# Altium integrated library HIP4082 双驱 V2.0 集成封装库.IntLib: 25 symbols
Pins are listed as number, name and electrical type; pins without a type are passive.

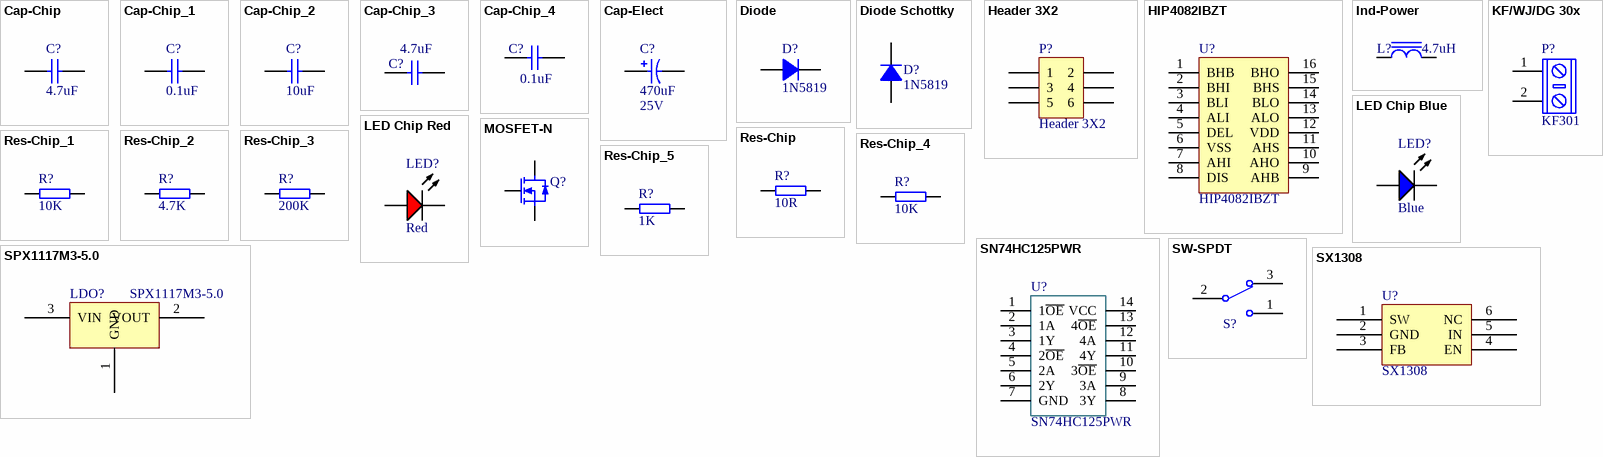
[diagram p0: symbols Cap-Chip to SX1308]

## Cap-Chip
designator C?, comment value 4.7uF  (hidden comment: 4.7uF ±10% 25V)
贴片电容; Published: 8-Jun-2000; Revision: July-2002: Re-released for DXP Platform.; Publisher: Altium Limited; Price(RMB): 0.000; Voltage: 25V; Tolerance: ±10%
footprint CAPC2012[0805]S (Chip Capacitor,Silkscreen Border, 2-Leads, Body 2.00x1.25mm, IPC Medium Density)
footprint CAPC1005[0402] (Chip Capacitor, 2-Leads, Body 1.00x0.50mm, IPC Medium Density)
footprint CAPC1005[0402]S (Chip Capacitor,Silkscreen border, 2-Leads, Body 1.00x0.50mm, IPC Medium Density)
footprint CAPC1310[0504]S (Chip Capacitor, 2-Leads, Body 1.17x1.02mm, IPC Medium Density)
footprint CAPC1608[0603]-L (Chip Capacitor, 2-Leads, Body 1.60x0.80mm, IPC Medium Density)
footprint CAPC1608[0603]-M (Chip Capacitor, 2-Leads, Body 1.60x0.80mm, IPC Maximum Density)
footprint CAPC1608[0603]-N (Chip Capacitor, 2-Leads, Body 1.60x0.80mm, IPC Medium Density)
footprint CAPC1608[0603]S-L (Chip Capacitor,Silkscreen Border,2-Leads, Body 1.60x0.80mm, IPC Minimum Density)
footprint CAPC1608[0603]S-M (Chip Capacitor,Silkscreen Border,2-Leads, Body 1.60x0.80mm, IPC Maximum Density)
footprint CAPC1608[0603]S-N (Chip Capacitor,Silkscreen Border,2-Leads, Body 1.60x0.80mm, IPC Medium Density)
footprint CAPC2012[0805] (Chip Capacitor, 2-Leads, Body 2.00x1.25mm, IPC Medium Density)
footprint CAPC3216[1206] (Chip Capacitor, 2-Leads, Body 3.20x1.60mm, IPC Medium Density)
footprint CAPC3216[1206]S (Chip Capacitor, Silkscreen Border,2-Leads, Body 3.20x1.60mm, IPC Medium Density)
footprint CAPC3225[1210] (Chip Capacitor, 2-Leads, Body 3.20x2.50mm, IPC Medium Density)
footprint CAPC3225[1210]S (Chip Capacitor,Silkscreen Border, 2-Leads, Body 3.20x2.50mm, IPC Medium Density)
footprint CAPC4532[1812] (Chip Capacitor, 2-Leads, Body 4.50x3.20mm, IPC Medium Density)
footprint CAPC4532[1812]S (Chip Capacitor, Silkscreen Border,2-Leads, Body 4.50x3.20mm, IPC Medium Density)
footprint CAPC4564[1825] (Chip Capacitor, 2-Leads, Body 4.50x6.40mm, IPC Medium Density)
footprint CAPC4564[1825]S (Chip Capacitor,Silkscreen Border, 2-Leads, Body 4.50x6.40mm, IPC Medium Density)
pins: 1, 2

## Cap-Chip_1
designator C?, comment value 0.1uF  (hidden comment: 0.1uF ±10% 50V)
贴片电容; Published: 8-Jun-2000; Revision: July-2002: Re-released for DXP Platform.; Publisher: Altium Limited; Price(RMB): 0.000; Voltage: 50V; Tolerance: ±10%
footprint CAPC1608[0603]S-N (Chip Capacitor,Silkscreen Border,2-Leads, Body 1.60x0.80mm, IPC Medium Density)
footprint CAPC1005[0402] (Chip Capacitor, 2-Leads, Body 1.00x0.50mm, IPC Medium Density)
footprint CAPC1005[0402]S (Chip Capacitor,Silkscreen border, 2-Leads, Body 1.00x0.50mm, IPC Medium Density)
footprint CAPC1310[0504]S (Chip Capacitor, 2-Leads, Body 1.17x1.02mm, IPC Medium Density)
footprint CAPC1608[0603]-L (Chip Capacitor, 2-Leads, Body 1.60x0.80mm, IPC Medium Density)
footprint CAPC1608[0603]-M (Chip Capacitor, 2-Leads, Body 1.60x0.80mm, IPC Maximum Density)
footprint CAPC1608[0603]-N (Chip Capacitor, 2-Leads, Body 1.60x0.80mm, IPC Medium Density)
footprint CAPC1608[0603]S-L (Chip Capacitor,Silkscreen Border,2-Leads, Body 1.60x0.80mm, IPC Minimum Density)
footprint CAPC1608[0603]S-M (Chip Capacitor,Silkscreen Border,2-Leads, Body 1.60x0.80mm, IPC Maximum Density)
footprint CAPC2012[0805] (Chip Capacitor, 2-Leads, Body 2.00x1.25mm, IPC Medium Density)
footprint CAPC2012[0805]S (Chip Capacitor,Silkscreen Border, 2-Leads, Body 2.00x1.25mm, IPC Medium Density)
footprint CAPC3216[1206] (Chip Capacitor, 2-Leads, Body 3.20x1.60mm, IPC Medium Density)
footprint CAPC3216[1206]S (Chip Capacitor, Silkscreen Border,2-Leads, Body 3.20x1.60mm, IPC Medium Density)
footprint CAPC3225[1210] (Chip Capacitor, 2-Leads, Body 3.20x2.50mm, IPC Medium Density)
footprint CAPC3225[1210]S (Chip Capacitor,Silkscreen Border, 2-Leads, Body 3.20x2.50mm, IPC Medium Density)
footprint CAPC4532[1812] (Chip Capacitor, 2-Leads, Body 4.50x3.20mm, IPC Medium Density)
footprint CAPC4532[1812]S (Chip Capacitor, Silkscreen Border,2-Leads, Body 4.50x3.20mm, IPC Medium Density)
footprint CAPC4564[1825] (Chip Capacitor, 2-Leads, Body 4.50x6.40mm, IPC Medium Density)
footprint CAPC4564[1825]S (Chip Capacitor,Silkscreen Border, 2-Leads, Body 4.50x6.40mm, IPC Medium Density)
pins: 1, 2

## Cap-Chip_2
designator C?, comment value 10uF  (hidden comment: 10uF ±10% 25V)
贴片电容; Published: 8-Jun-2000; Revision: July-2002: Re-released for DXP Platform.; Publisher: Altium Limited; Price(RMB): 0.000; Voltage: 25V; Tolerance: ±10%
footprint CAPC1608[0603]S-N (Chip Capacitor,Silkscreen Border,2-Leads, Body 1.60x0.80mm, IPC Medium Density)
footprint CAPC1005[0402] (Chip Capacitor, 2-Leads, Body 1.00x0.50mm, IPC Medium Density)
footprint CAPC1005[0402]S (Chip Capacitor,Silkscreen border, 2-Leads, Body 1.00x0.50mm, IPC Medium Density)
footprint CAPC1310[0504]S (Chip Capacitor, 2-Leads, Body 1.17x1.02mm, IPC Medium Density)
footprint CAPC1608[0603]-L (Chip Capacitor, 2-Leads, Body 1.60x0.80mm, IPC Medium Density)
footprint CAPC1608[0603]-M (Chip Capacitor, 2-Leads, Body 1.60x0.80mm, IPC Maximum Density)
footprint CAPC1608[0603]-N (Chip Capacitor, 2-Leads, Body 1.60x0.80mm, IPC Medium Density)
footprint CAPC1608[0603]S-L (Chip Capacitor,Silkscreen Border,2-Leads, Body 1.60x0.80mm, IPC Minimum Density)
footprint CAPC1608[0603]S-M (Chip Capacitor,Silkscreen Border,2-Leads, Body 1.60x0.80mm, IPC Maximum Density)
footprint CAPC2012[0805] (Chip Capacitor, 2-Leads, Body 2.00x1.25mm, IPC Medium Density)
footprint CAPC2012[0805]S (Chip Capacitor,Silkscreen Border, 2-Leads, Body 2.00x1.25mm, IPC Medium Density)
footprint CAPC3216[1206] (Chip Capacitor, 2-Leads, Body 3.20x1.60mm, IPC Medium Density)
footprint CAPC3216[1206]S (Chip Capacitor, Silkscreen Border,2-Leads, Body 3.20x1.60mm, IPC Medium Density)
footprint CAPC3225[1210] (Chip Capacitor, 2-Leads, Body 3.20x2.50mm, IPC Medium Density)
footprint CAPC3225[1210]S (Chip Capacitor,Silkscreen Border, 2-Leads, Body 3.20x2.50mm, IPC Medium Density)
footprint CAPC4532[1812] (Chip Capacitor, 2-Leads, Body 4.50x3.20mm, IPC Medium Density)
footprint CAPC4532[1812]S (Chip Capacitor, Silkscreen Border,2-Leads, Body 4.50x3.20mm, IPC Medium Density)
footprint CAPC4564[1825] (Chip Capacitor, 2-Leads, Body 4.50x6.40mm, IPC Medium Density)
footprint CAPC4564[1825]S (Chip Capacitor,Silkscreen Border, 2-Leads, Body 4.50x6.40mm, IPC Medium Density)
pins: 1, 2

## Cap-Chip_3
designator C?, comment value 4.7uF  (hidden comment: 4.7uF ±10% 50V)
贴片电容; Published: 8-Jun-2000; Revision: July-2002: Re-released for DXP Platform.; Publisher: Altium Limited; Price(RMB): 0.000; Voltage: 50V; Tolerance: ±10%
footprint CAPC1310[0504]S (Chip Capacitor, 2-Leads, Body 1.17x1.02mm, IPC Medium Density)
footprint CAPC2012[0805]S (Chip Capacitor,Silkscreen Border, 2-Leads, Body 2.00x1.25mm, IPC Medium Density)
footprint CAPC3216[1206]S (Chip Capacitor, Silkscreen Border,2-Leads, Body 3.20x1.60mm, IPC Medium Density)
footprint CAPC3225[1210]S (Chip Capacitor,Silkscreen Border, 2-Leads, Body 3.20x2.50mm, IPC Medium Density)
footprint CAPC4532[1812]S (Chip Capacitor, Silkscreen Border,2-Leads, Body 4.50x3.20mm, IPC Medium Density)
footprint CAPC4564[1825]S (Chip Capacitor,Silkscreen Border, 2-Leads, Body 4.50x6.40mm, IPC Medium Density)
footprint CAPC2012[0805] (Chip Capacitor, 2-Leads, Body 2.00x1.25mm, IPC Medium Density)
footprint CAPC3216[1206] (Chip Capacitor, 2-Leads, Body 3.20x1.60mm, IPC Medium Density)
footprint CAPC3225[1210] (Chip Capacitor, 2-Leads, Body 3.20x2.50mm, IPC Medium Density)
footprint CAPC4532[1812] (Chip Capacitor, 2-Leads, Body 4.50x3.20mm, IPC Medium Density)
footprint CAPC4564[1825] (Chip Capacitor, 2-Leads, Body 4.50x6.40mm, IPC Medium Density)
footprint CAPC1608[0603]-N (Chip Capacitor, 2-Leads, Body 1.60x0.80mm, IPC Medium Density)
footprint CAPC1608[0603]-L (Chip Capacitor, 2-Leads, Body 1.60x0.80mm, IPC Medium Density)
footprint CAPC1608[0603]-M (Chip Capacitor, 2-Leads, Body 1.60x0.80mm, IPC Maximum Density)
footprint CAPC1608[0603]S-L (Chip Capacitor,Silkscreen Border,2-Leads, Body 1.60x0.80mm, IPC Minimum Density)
footprint CAPC1608[0603]S-M (Chip Capacitor,Silkscreen Border,2-Leads, Body 1.60x0.80mm, IPC Maximum Density)
footprint CAPC1608[0603]S-N (Chip Capacitor,Silkscreen Border,2-Leads, Body 1.60x0.80mm, IPC Medium Density)
footprint CAPC1005[0402]-L (Chip Capacitor,Silkscreen border, 2-Leads, Body 1.00x0.50mm, IPC Medium Density)
footprint CAPC1005[0402]-M (Chip Capacitor,Silkscreen border, 2-Leads, Body 1.00x0.50mm, IPC Medium Density)
footprint CAPC1005[0402]-N (Chip Capacitor,Silkscreen border, 2-Leads, Body 1.00x0.50mm, IPC Medium Density)
footprint CAPC1005[0402]S-L (Chip Capacitor,Silkscreen border, 2-Leads, Body 1.00x0.50mm, IPC Medium Density)
footprint CAPC1005[0402]S-M (Chip Capacitor,Silkscreen border, 2-Leads, Body 1.00x0.50mm, IPC Medium Density)
footprint CAPC1005[0402]S-N (Chip Capacitor,Silkscreen border, 2-Leads, Body 1.00x0.50mm, IPC Medium Density)
pins: 1, 2

## Cap-Chip_4
designator C?, comment value 0.1uF  (hidden comment: 0.1uF ±10% 50V)
贴片电容; Published: 8-Jun-2000; Revision: July-2002: Re-released for DXP Platform.; Publisher: Altium Limited; Price(RMB): 0.000; Voltage: 50V; Tolerance: ±10%
footprint CAPC1310[0504]S (Chip Capacitor, 2-Leads, Body 1.17x1.02mm, IPC Medium Density)
footprint CAPC2012[0805]S (Chip Capacitor,Silkscreen Border, 2-Leads, Body 2.00x1.25mm, IPC Medium Density)
footprint CAPC3216[1206]S (Chip Capacitor, Silkscreen Border,2-Leads, Body 3.20x1.60mm, IPC Medium Density)
footprint CAPC3225[1210]S (Chip Capacitor,Silkscreen Border, 2-Leads, Body 3.20x2.50mm, IPC Medium Density)
footprint CAPC4532[1812]S (Chip Capacitor, Silkscreen Border,2-Leads, Body 4.50x3.20mm, IPC Medium Density)
footprint CAPC4564[1825]S (Chip Capacitor,Silkscreen Border, 2-Leads, Body 4.50x6.40mm, IPC Medium Density)
footprint CAPC2012[0805] (Chip Capacitor, 2-Leads, Body 2.00x1.25mm, IPC Medium Density)
footprint CAPC3216[1206] (Chip Capacitor, 2-Leads, Body 3.20x1.60mm, IPC Medium Density)
footprint CAPC3225[1210] (Chip Capacitor, 2-Leads, Body 3.20x2.50mm, IPC Medium Density)
footprint CAPC4532[1812] (Chip Capacitor, 2-Leads, Body 4.50x3.20mm, IPC Medium Density)
footprint CAPC4564[1825] (Chip Capacitor, 2-Leads, Body 4.50x6.40mm, IPC Medium Density)
footprint CAPC1608[0603]-N (Chip Capacitor, 2-Leads, Body 1.60x0.80mm, IPC Medium Density)
footprint CAPC1608[0603]-L (Chip Capacitor, 2-Leads, Body 1.60x0.80mm, IPC Medium Density)
footprint CAPC1608[0603]-M (Chip Capacitor, 2-Leads, Body 1.60x0.80mm, IPC Maximum Density)
footprint CAPC1608[0603]S-L (Chip Capacitor,Silkscreen Border,2-Leads, Body 1.60x0.80mm, IPC Minimum Density)
footprint CAPC1608[0603]S-M (Chip Capacitor,Silkscreen Border,2-Leads, Body 1.60x0.80mm, IPC Maximum Density)
footprint CAPC1608[0603]S-N (Chip Capacitor,Silkscreen Border,2-Leads, Body 1.60x0.80mm, IPC Medium Density)
footprint CAPC1005[0402]-L (Chip Capacitor,Silkscreen border, 2-Leads, Body 1.00x0.50mm, IPC Medium Density)
footprint CAPC1005[0402]-M (Chip Capacitor,Silkscreen border, 2-Leads, Body 1.00x0.50mm, IPC Medium Density)
footprint CAPC1005[0402]-N (Chip Capacitor,Silkscreen border, 2-Leads, Body 1.00x0.50mm, IPC Medium Density)
footprint CAPC1005[0402]S-L (Chip Capacitor,Silkscreen border, 2-Leads, Body 1.00x0.50mm, IPC Medium Density)
footprint CAPC1005[0402]S-M (Chip Capacitor,Silkscreen border, 2-Leads, Body 1.00x0.50mm, IPC Medium Density)
footprint CAPC1005[0402]S-N (Chip Capacitor,Silkscreen border, 2-Leads, Body 1.00x0.50mm, IPC Medium Density)
pins: 1, 2

## Cap-Elect
designator C?, comment value 470uF  Voltage: 25V  (hidden comment: 470uF 25V)
Polarized Capacitor (Radial); Published: 8-Jun-2000; Revision: July-2002: Re-released for DXP Platform.; Publisher: Altium Limited; Price(RMB): 0.000
footprint CAPPR2-4x6.8
footprint CAPPR2-5X5
footprint CAPPR2-5X6.8
footprint CAPPR2-5X7
footprint CAPPR2-5X11
footprint CAPPR2-5X11.5
footprint CAPPR2-5X15
footprint CAPPR2.5-6.3X5
footprint CAPPR2.5-6.3X5/h.9
footprint CAPPR2.5-6.3X6.8
footprint CAPPR2.5-6.3X6.8/h.9
footprint CAPPR2.5-6.3X7
footprint CAPPR2.5-6.3X11
footprint CAPPR2.5-6.3X11.5
footprint CAPPR2.5-6.3X15
footprint CAPPR2.5-6.3x9.8
footprint CAPPR2.5-8X9.8
footprint CAPPR2.5-8X11
footprint CAPPR2.5-8x5
footprint CAPPR3.05-3.81X6.35
footprint CAPPR3.5-8X5/h.9
footprint CAPPR3.5-8X10.5
footprint CAPPR3.5-8X11.5
footprint CAPPR3.5-8X12
footprint CAPPR3.5-8X15
footprint CAPPR3.5-8X20
footprint CAPPR3.5-8x5
footprint CAPPR5-8X5
footprint CAPPR5-8X11.5
footprint CAPPR5-8X12
footprint CAPPR5-8X15
footprint CAPPR5-8X20
footprint CAPPR5-10X5/H.9
footprint CAPPR5-10X10.5
footprint CAPPR5-10X12.5
footprint CAPPR5-10X16
footprint CAPPR5-10X20/H1.1
footprint CAPPR5-10X25
footprint CAPPR5-10X30
footprint CAPPR5-10x5
footprint CAPPR5-10x20
pins: 1, 2

## Diode
designator D?, comment 1N5819
普通二极管 Diode; Imax: 500mA; Published: 8-Jun-2000; Revision: July-2002: Re-released for DXP Platform.; Publisher: Altium Limited; Price(RMB): 0.000
footprint SMB[DO-214AA] (Molded Diode, 2-Leads, Body 5.30x3.55mm, IPC Medium Density)
footprint SMC[DO-214AB] (Molded Diode, 2-Leads, Body 7.94x5.90mm, IPC Medium Density)
footprint SOD-123 (SOD Diode;2.70mm W X 1.60mm L X 1.35mm H body)
footprint SOD-323 (SOD Diode;1.65mm W X 1.24mm L X 1.16mm H body)
footprint SOD-523 (SODFL Diode;1.20mm W X 0.80mm L X 0.70mm H body)
footprint SMA[DO-214AC] (Molded Diode, 2-Leads, Body 5.00x2.49mm, IPC Medium Density)
pins: A, K

## Diode Schottky
designator D?, comment 1N5819
Schottky Diode; Imax: 500mA; Published: 8-Jun-2000; Revision: July-2002: Re-released for DXP Platform.; Publisher: Altium Limited; Price(RMB): 0.000; PartNumber: 1N5819
footprint SOD-123 (SOD Diode;2.70mm W X 1.60mm L X 1.35mm H body)
pins: A, K

## Header 3X2
designator P?
Header, 3-Pin, Dual row; LatestRevisionDate: 17-Jul-2002; LatestRevisionNote: Re-released for DXP Platform.; Publisher: Altium Limited; Price(RMB): 0.00
signal-integrity model Connector
footprint HDR2X3 (Connector; Header; 3x2 Position)
pins: 1, 2, 3, 4, 5, 6

## HIP4082IBZT
designator U?
全桥MOSFET驱动芯片 SOP-16
footprint SOP-16 (SOIC,1.27mm pitch;16 pin,3.90mm W X 9.90mm L X 1.65mm H body)
pins: 1 BHB, 2 BHI, 3 BLI, 4 ALI, 5 DEL, 6 VSS, 7 AHI, 8 DIS, 9 AHB, 10 AHO, 11 AHS, 12 VDD, 13 ALO, 14 BLO, 15 BHS, 16 BHO

## Ind-Power
designator L?, comment 4.7uH
Power Inductor, Ferrite-Core; Imax: 50mA; DCR: .5m; Published: 8-Jun-2000; Revision: July-2002: Re-released for DXP Platform.; Publisher: Altium Limited; Price(RMB): 0.000; Value: 4.7uH
footprint SLO2520
pins: 1, 2

## KF/WJ/DG 30x
designator P?, comment KF301
接线端子 2Pin
footprint KF/WJ/DG 301-2p-5.0mm (2P 5.08mm间距 接线端子)
pins: 1, 2

## LED Chip Blue
designator LED?, comment Blue
Typical Chip LED; Published: 8-Jun-2000; Revision: July-2002: Re-released for DXP Platform.; Publisher: Altium Limited; Price(RMB): 0.00; Color: Blue
footprint LEDC1608(0603) (LED,Chip;1.60mm L X 0.80mm W X 0.80mm H)
footprint LEDC2012(0805) (LED,Chip;2.00mm L X 1.25mm W X 1.20mm H)
footprint LEDC3216(1206) (LED,Chip;3.20mm L X 1.60mm W X 1.30mm H)
pins: A, C

## LED Chip Red
designator LED?, comment Red
Typical Chip LED; Published: 8-Jun-2000; Revision: July-2002: Re-released for DXP Platform.; Publisher: Altium Limited; Price(RMB): 0.00; Color: Red
footprint LEDC1608(0603) (LED,Chip;1.60mm L X 0.80mm W X 0.80mm H)
footprint LEDC2012(0805) (LED,Chip;2.00mm L X 1.25mm W X 1.20mm H)
footprint LEDC3216(1206) (LED,Chip;3.20mm L X 1.60mm W X 1.30mm H)
pins: A, C

## MOSFET-N
designator Q?  (value not drawn)
N-Channel MOSFET; Published: 8-Jun-2000; LatestRevisionDate: 17-Jul-2002; LatestRevisionNote: Re-released for DXP Platform.; PackageVersion: 1995/1996; PackageReference: E3; Publisher: Altium Limited; PackageDescription: TO, Flat Index; 3 In-Line, Axial Leads; Body Dia. 4.6mm; Lead Dia. 0.5 mm (max)
footprint TO-252AA (D-PAK, 4-Leads, Body 6.1x6.5mm, Pitch 2.28mm, Lead Span 9.8mm, IPC Low Density)
pins: 1 D, 2 G, 3 S

## Res-Chip
designator R?, comment value 10R  (hidden comment: 10R 1%)
贴片电阻; Published: 8-Jun-2000; Revision: July-2002: Re-released for DXP Platform.; Publisher: Altium Limited; Tolerance: 1%; Price(RMB): 0.000
footprint RESC1608[0603]S-N (Silkscreen Outside, Chip Resistor, 2-Leads, Body 1.60x0.82mm, IPC Medium Density)
footprint RESC1005[0402] (Chip Resistor, 2-Leads, Body 1.05x0.54mm, IPC Medium Density)
footprint RESC1005[0402]S (Silkscreen Outside, Chip Resistor, 2-Leads, Body 1.05x0.54mm, IPC Medium Density)
footprint RESC1608[0603]-L (Chip Resistor, 2-Leads, Body 1.60x0.82mm, IPC Minimum Density)
footprint RESC1608[0603]-M (Chip Resistor, 2-Leads, Body 1.60x0.82mm, IPC Maximum Density)
footprint RESC1608[0603]-N (Chip Resistor, 2-Leads, Body 1.60x0.82mm, IPC Medium Density)
footprint RESC1608[0603]S-L (Silkscreen Outside, Chip Resistor, 2-Leads, Body 1.60x0.82mm, IPC Minimum Density)
footprint RESC1608[0603]S-M (Silkscreen Outside, Chip Resistor, 2-Leads, Body 1.60x0.82mm, IPC Maximum Density)
footprint RESC2012[0805] (Chip Resistor, 2-Leads, Body 2.00x1.25mm, IPC Medium Density)
footprint RESC2012[0805]S (Silkscreen Outside, Chip Resistor, 2-Leads, Body 2.00x1.25mm, IPC Medium Density)
footprint RESC3216[1206] (Chip Resistor, 2-Leads, Body 3.20x1.60mm, IPC Medium Density)
footprint RESC3216[1206]S (Silkscreen Outside, Chip Resistor, 2-Leads, Body 3.20x1.60mm, IPC Medium Density)
footprint RESC3225[1210] (Chip Resistor, 2-Leads, Body 3.20x2.49mm, IPC Medium Density)
footprint RESC3225[1210]S (Silkscreen Outside, Chip Resistor, 2-Leads, Body 3.20x2.49mm, IPC Medium Density)
footprint RESC5025[2010] (Chip Resistor, 2-Leads, Body 5.00x2.50mm, IPC Medium Density)
footprint RESC5025[2010]S (Silkscreen Outside, Chip Resistor, 2-Leads, Body 5.00x2.50mm, IPC Medium Density)
footprint RESC6332[2512] (Chip Resistor, 2-Leads, Body 6.30x3.20mm, IPC Medium Density)
footprint RESC6332[2512]S (Silkscreen Outside, Chip Resistor, 2-Leads, Body 6.30x3.20mm, IPC Medium Density)
pins: 1, 2
1 alternate drawing of the same symbol

## Res-Chip_1
designator R?, comment value 10K  (hidden comment: 10K 1%)
贴片电阻; Published: 8-Jun-2000; Revision: July-2002: Re-released for DXP Platform.; Publisher: Altium Limited; Tolerance: 1%; Price(RMB): 0.000
footprint RESC1608[0603]S-N (Silkscreen Outside, Chip Resistor, 2-Leads, Body 1.60x0.82mm, IPC Medium Density)
footprint RESC1005[0402] (Chip Resistor, 2-Leads, Body 1.05x0.54mm, IPC Medium Density)
footprint RESC1005[0402]S (Silkscreen Outside, Chip Resistor, 2-Leads, Body 1.05x0.54mm, IPC Medium Density)
footprint RESC1608[0603]-L (Chip Resistor, 2-Leads, Body 1.60x0.82mm, IPC Minimum Density)
footprint RESC1608[0603]-M (Chip Resistor, 2-Leads, Body 1.60x0.82mm, IPC Maximum Density)
footprint RESC1608[0603]-N (Chip Resistor, 2-Leads, Body 1.60x0.82mm, IPC Medium Density)
footprint RESC1608[0603]S-L (Silkscreen Outside, Chip Resistor, 2-Leads, Body 1.60x0.82mm, IPC Minimum Density)
footprint RESC1608[0603]S-M (Silkscreen Outside, Chip Resistor, 2-Leads, Body 1.60x0.82mm, IPC Maximum Density)
footprint RESC2012[0805] (Chip Resistor, 2-Leads, Body 2.00x1.25mm, IPC Medium Density)
footprint RESC2012[0805]S (Silkscreen Outside, Chip Resistor, 2-Leads, Body 2.00x1.25mm, IPC Medium Density)
footprint RESC3216[1206] (Chip Resistor, 2-Leads, Body 3.20x1.60mm, IPC Medium Density)
footprint RESC3216[1206]S (Silkscreen Outside, Chip Resistor, 2-Leads, Body 3.20x1.60mm, IPC Medium Density)
footprint RESC3225[1210] (Chip Resistor, 2-Leads, Body 3.20x2.49mm, IPC Medium Density)
footprint RESC3225[1210]S (Silkscreen Outside, Chip Resistor, 2-Leads, Body 3.20x2.49mm, IPC Medium Density)
footprint RESC5025[2010] (Chip Resistor, 2-Leads, Body 5.00x2.50mm, IPC Medium Density)
footprint RESC5025[2010]S (Silkscreen Outside, Chip Resistor, 2-Leads, Body 5.00x2.50mm, IPC Medium Density)
footprint RESC6332[2512] (Chip Resistor, 2-Leads, Body 6.30x3.20mm, IPC Medium Density)
footprint RESC6332[2512]S (Silkscreen Outside, Chip Resistor, 2-Leads, Body 6.30x3.20mm, IPC Medium Density)
pins: 1, 2
1 alternate drawing of the same symbol

## Res-Chip_2
designator R?, comment value 4.7K  (hidden comment: 4.7K 1%)
贴片电阻; Published: 8-Jun-2000; Revision: July-2002: Re-released for DXP Platform.; Publisher: Altium Limited; Tolerance: 1%; Price(RMB): 0.000
footprint RESC1608[0603]S-N (Silkscreen Outside, Chip Resistor, 2-Leads, Body 1.60x0.82mm, IPC Medium Density)
footprint RESC1005[0402] (Chip Resistor, 2-Leads, Body 1.05x0.54mm, IPC Medium Density)
footprint RESC1005[0402]S (Silkscreen Outside, Chip Resistor, 2-Leads, Body 1.05x0.54mm, IPC Medium Density)
footprint RESC1608[0603]-L (Chip Resistor, 2-Leads, Body 1.60x0.82mm, IPC Minimum Density)
footprint RESC1608[0603]-M (Chip Resistor, 2-Leads, Body 1.60x0.82mm, IPC Maximum Density)
footprint RESC1608[0603]-N (Chip Resistor, 2-Leads, Body 1.60x0.82mm, IPC Medium Density)
footprint RESC1608[0603]S-L (Silkscreen Outside, Chip Resistor, 2-Leads, Body 1.60x0.82mm, IPC Minimum Density)
footprint RESC1608[0603]S-M (Silkscreen Outside, Chip Resistor, 2-Leads, Body 1.60x0.82mm, IPC Maximum Density)
footprint RESC2012[0805] (Chip Resistor, 2-Leads, Body 2.00x1.25mm, IPC Medium Density)
footprint RESC2012[0805]S (Silkscreen Outside, Chip Resistor, 2-Leads, Body 2.00x1.25mm, IPC Medium Density)
footprint RESC3216[1206] (Chip Resistor, 2-Leads, Body 3.20x1.60mm, IPC Medium Density)
footprint RESC3216[1206]S (Silkscreen Outside, Chip Resistor, 2-Leads, Body 3.20x1.60mm, IPC Medium Density)
footprint RESC3225[1210] (Chip Resistor, 2-Leads, Body 3.20x2.49mm, IPC Medium Density)
footprint RESC3225[1210]S (Silkscreen Outside, Chip Resistor, 2-Leads, Body 3.20x2.49mm, IPC Medium Density)
footprint RESC5025[2010] (Chip Resistor, 2-Leads, Body 5.00x2.50mm, IPC Medium Density)
footprint RESC5025[2010]S (Silkscreen Outside, Chip Resistor, 2-Leads, Body 5.00x2.50mm, IPC Medium Density)
footprint RESC6332[2512] (Chip Resistor, 2-Leads, Body 6.30x3.20mm, IPC Medium Density)
footprint RESC6332[2512]S (Silkscreen Outside, Chip Resistor, 2-Leads, Body 6.30x3.20mm, IPC Medium Density)
pins: 1, 2
1 alternate drawing of the same symbol

## Res-Chip_3
designator R?, comment value 200K  (hidden comment: 200K ±1%)
贴片电阻; Published: 8-Jun-2000; Revision: July-2002: Re-released for DXP Platform.; Publisher: Altium Limited; Price(RMB): 0.000; Tolerance: ±1%
footprint RESC2012[0805]S (Silkscreen Outside, Chip Resistor, 2-Leads, Body 2.00x1.25mm, IPC Medium Density)
footprint RESC3216[1206]S (Silkscreen Outside, Chip Resistor, 2-Leads, Body 3.20x1.60mm, IPC Medium Density)
footprint RESC3225[1210]S (Silkscreen Outside, Chip Resistor, 2-Leads, Body 3.20x2.49mm, IPC Medium Density)
footprint RESC5025[2010]S (Silkscreen Outside, Chip Resistor, 2-Leads, Body 5.00x2.50mm, IPC Medium Density)
footprint RESC6332[2512]S (Silkscreen Outside, Chip Resistor, 2-Leads, Body 6.30x3.20mm, IPC Medium Density)
footprint RESC5025[2010] (Chip Resistor, 2-Leads, Body 5.00x2.50mm, IPC Medium Density)
footprint RESC6332[2512] (Chip Resistor, 2-Leads, Body 6.30x3.20mm, IPC Medium Density)
footprint RESC3225[1210] (Chip Resistor, 2-Leads, Body 3.20x2.49mm, IPC Medium Density)
footprint RESC3216[1206] (Chip Resistor, 2-Leads, Body 3.20x1.60mm, IPC Medium Density)
footprint RESC2012[0805] (Chip Resistor, 2-Leads, Body 2.00x1.25mm, IPC Medium Density)
footprint RESC1608[0603]-M (Chip Resistor, 2-Leads, Body 1.60x0.82mm, IPC Maximum Density)
footprint RESC1608[0603]-L (Chip Resistor, 2-Leads, Body 1.60x0.82mm, IPC Minimum Density)
footprint RESC1608[0603]-N (Chip Resistor, 2-Leads, Body 1.60x0.82mm, IPC Medium Density)
footprint RESC1608[0603]S-L (Silkscreen Outside, Chip Resistor, 2-Leads, Body 1.60x0.82mm, IPC Minimum Density)
footprint RESC1608[0603]S-M (Silkscreen Outside, Chip Resistor, 2-Leads, Body 1.60x0.82mm, IPC Maximum Density)
footprint RESC1608[0603]S-N (Silkscreen Outside, Chip Resistor, 2-Leads, Body 1.60x0.82mm, IPC Medium Density)
footprint RESC1005[0402]-L (0402贴片电阻 无丝印 2脚 1.00x0.50mm，IPC高密度)
footprint RESC1005[0402]-N (0402贴片电阻 无丝印 2脚 1.00x0.50mm，IPC中密度)
footprint RESC1005[0402]-M (0402贴片电阻 无丝印 2脚 1.00x0.50mm，IPC低密度)
footprint RESC1005[0402]S-L (0402贴片电阻 有丝印 2脚 1.00x0.50mm，IPC高密度)
footprint RESC1005[0402]S-M (0402贴片电阻 有丝印 2脚 1.00x0.50mm，IPC低密度)
footprint RESC1005[0402]S-N (0402贴片电阻 有丝印 2脚 1.00x0.50mm，IPC中等密度)
pins: 1, 2
1 alternate drawing of the same symbol

## Res-Chip_4
designator R?, comment value 10K  (hidden comment: 10K ±1%)
贴片电阻; Published: 8-Jun-2000; Revision: July-2002: Re-released for DXP Platform.; Publisher: Altium Limited; Price(RMB): 0.000; Tolerance: ±1%
footprint RESC2012[0805]S (Silkscreen Outside, Chip Resistor, 2-Leads, Body 2.00x1.25mm, IPC Medium Density)
footprint RESC3216[1206]S (Silkscreen Outside, Chip Resistor, 2-Leads, Body 3.20x1.60mm, IPC Medium Density)
footprint RESC3225[1210]S (Silkscreen Outside, Chip Resistor, 2-Leads, Body 3.20x2.49mm, IPC Medium Density)
footprint RESC5025[2010]S (Silkscreen Outside, Chip Resistor, 2-Leads, Body 5.00x2.50mm, IPC Medium Density)
footprint RESC6332[2512]S (Silkscreen Outside, Chip Resistor, 2-Leads, Body 6.30x3.20mm, IPC Medium Density)
footprint RESC5025[2010] (Chip Resistor, 2-Leads, Body 5.00x2.50mm, IPC Medium Density)
footprint RESC6332[2512] (Chip Resistor, 2-Leads, Body 6.30x3.20mm, IPC Medium Density)
footprint RESC3225[1210] (Chip Resistor, 2-Leads, Body 3.20x2.49mm, IPC Medium Density)
footprint RESC3216[1206] (Chip Resistor, 2-Leads, Body 3.20x1.60mm, IPC Medium Density)
footprint RESC2012[0805] (Chip Resistor, 2-Leads, Body 2.00x1.25mm, IPC Medium Density)
footprint RESC1608[0603]-M (Chip Resistor, 2-Leads, Body 1.60x0.82mm, IPC Maximum Density)
footprint RESC1608[0603]-L (Chip Resistor, 2-Leads, Body 1.60x0.82mm, IPC Minimum Density)
footprint RESC1608[0603]-N (Chip Resistor, 2-Leads, Body 1.60x0.82mm, IPC Medium Density)
footprint RESC1608[0603]S-L (Silkscreen Outside, Chip Resistor, 2-Leads, Body 1.60x0.82mm, IPC Minimum Density)
footprint RESC1608[0603]S-M (Silkscreen Outside, Chip Resistor, 2-Leads, Body 1.60x0.82mm, IPC Maximum Density)
footprint RESC1608[0603]S-N (Silkscreen Outside, Chip Resistor, 2-Leads, Body 1.60x0.82mm, IPC Medium Density)
footprint RESC1005[0402]-L (0402贴片电阻 无丝印 2脚 1.00x0.50mm，IPC高密度)
footprint RESC1005[0402]-N (0402贴片电阻 无丝印 2脚 1.00x0.50mm，IPC中密度)
footprint RESC1005[0402]-M (0402贴片电阻 无丝印 2脚 1.00x0.50mm，IPC低密度)
footprint RESC1005[0402]S-L (0402贴片电阻 有丝印 2脚 1.00x0.50mm，IPC高密度)
footprint RESC1005[0402]S-M (0402贴片电阻 有丝印 2脚 1.00x0.50mm，IPC低密度)
footprint RESC1005[0402]S-N (0402贴片电阻 有丝印 2脚 1.00x0.50mm，IPC中等密度)
pins: 1, 2
1 alternate drawing of the same symbol

## Res-Chip_5
designator R?, comment value 1K  (hidden comment: 1K 1%)
贴片电阻; Published: 8-Jun-2000; Revision: July-2002: Re-released for DXP Platform.; Publisher: Altium Limited; Tolerance: 1%; Price(RMB): 0.000
footprint RESC1608[0603]S-N (Silkscreen Outside, Chip Resistor, 2-Leads, Body 1.60x0.82mm, IPC Medium Density)
footprint RESC1005[0402] (Chip Resistor, 2-Leads, Body 1.05x0.54mm, IPC Medium Density)
footprint RESC1005[0402]S (Silkscreen Outside, Chip Resistor, 2-Leads, Body 1.05x0.54mm, IPC Medium Density)
footprint RESC1608[0603]-L (Chip Resistor, 2-Leads, Body 1.60x0.82mm, IPC Minimum Density)
footprint RESC1608[0603]-M (Chip Resistor, 2-Leads, Body 1.60x0.82mm, IPC Maximum Density)
footprint RESC1608[0603]-N (Chip Resistor, 2-Leads, Body 1.60x0.82mm, IPC Medium Density)
footprint RESC1608[0603]S-L (Silkscreen Outside, Chip Resistor, 2-Leads, Body 1.60x0.82mm, IPC Minimum Density)
footprint RESC1608[0603]S-M (Silkscreen Outside, Chip Resistor, 2-Leads, Body 1.60x0.82mm, IPC Maximum Density)
footprint RESC2012[0805] (Chip Resistor, 2-Leads, Body 2.00x1.25mm, IPC Medium Density)
footprint RESC2012[0805]S (Silkscreen Outside, Chip Resistor, 2-Leads, Body 2.00x1.25mm, IPC Medium Density)
footprint RESC3216[1206] (Chip Resistor, 2-Leads, Body 3.20x1.60mm, IPC Medium Density)
footprint RESC3216[1206]S (Silkscreen Outside, Chip Resistor, 2-Leads, Body 3.20x1.60mm, IPC Medium Density)
footprint RESC3225[1210] (Chip Resistor, 2-Leads, Body 3.20x2.49mm, IPC Medium Density)
footprint RESC3225[1210]S (Silkscreen Outside, Chip Resistor, 2-Leads, Body 3.20x2.49mm, IPC Medium Density)
footprint RESC5025[2010] (Chip Resistor, 2-Leads, Body 5.00x2.50mm, IPC Medium Density)
footprint RESC5025[2010]S (Silkscreen Outside, Chip Resistor, 2-Leads, Body 5.00x2.50mm, IPC Medium Density)
footprint RESC6332[2512] (Chip Resistor, 2-Leads, Body 6.30x3.20mm, IPC Medium Density)
footprint RESC6332[2512]S (Silkscreen Outside, Chip Resistor, 2-Leads, Body 6.30x3.20mm, IPC Medium Density)
pins: 1, 2
1 alternate drawing of the same symbol

## SN74HC125PWR
designator U?
三态输出的四路缓冲器 TSSOP-20
footprint TSSOP-14 (TSSOP 14pin 0.65mm间距)
pins: 1 1~{OE}, 2 1A, 3 1Y, 4 2~{OE}, 5 2A, 6 2Y, 7 GND, 8 3Y, 9 3A, 10 3~{OE}, 11 4Y, 12 4A, 13 4~{OE}, 14 VCC

## SPX1117M3-5.0
designator LDO?
5.0V LDO SOT223 / 线性稳压器
footprint SOT-223
pins: 1 GND, 2 VOUT, 3 VIN

## SW-SPDT
designator S?  (value not drawn)
单刀双掷开关 3脚船型、钮子、拨动开关 SPDT Subminiature Toggle Switch; Published: 24-Mar-1999; Publisher: Altium Limited; Price(RMB): 0.000
footprint ToggleSwitch 7102
footprint SS12D06 (拨动开关，弯脚，脚距4.8)
footprint SS12D10 (拨动开关 直脚 脚距4.8)
pins: 1, 2, 3

## SX1308
designator U?
sot-23-6小升压DC-DC
footprint SOT-23-6 (SOT23, 6-Leads, Body 2.90x2.80mm, Pitch 0.95mm, IPC Medium Density)
pins: 1 SW, 2 GND, 3 FB, 4 EN, 5 IN, 6 NC